# Altium integrated library 0603YC104KAZ2A.IntLib: 1 symbol
Pins are listed as number, name and electrical type; pins without a type are passive.

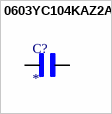
[diagram p0: symbol 0603YC104KAZ2A]

## 0603YC104KAZ2A
designator C?
Capacitor MLCC 0603 100nF 16V | AVX 0603YC104KAZ2A; SnapEDA_Link: https://www.snapeda.com/parts/0603YC104KAZ2A/AVX/view-part/?ref=snap; Package: 1608 AVX; Value: *; MF: AVX; MP: 0603YC104KAZ2A; Check_prices: https://www.snapeda.com/parts/0603YC104KAZ2A/AVX/view-part/?ref=eda
footprint CAPC1608X90N
pins: 1, 2